# Altium integrated library Resistors.IntLib: 4954 symbols (part 25 of 32)
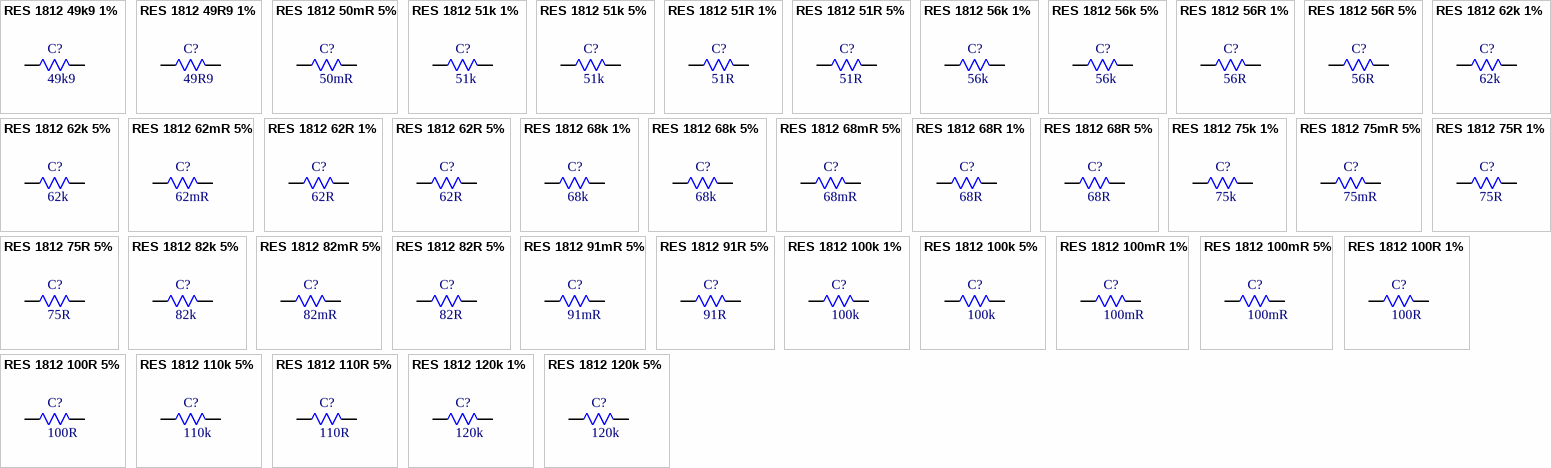
[diagram p147: symbols RES 1812 49k9 1% to RES 1812 120k 5%]

## RES 1812 49k9 1%
designator C?, comment 49k9
49.9kR 750mW 200V Thick Film Resistor 1% 100ppm/â„ƒ 1812 Chip Resistor - Surface Mount RoHS; Manufacturer: FOJAN; Manufacturer Part Number: FRC1812F4992TS; Supplier: LCSC; Supplier Part Number: C7467339; Resistance: 49k9; Tolerance: 1%; Voltage Rating: 200V; Power: 750mW
footprint RES SMD 1812
pins: 1, 2

## RES 1812 49R9 1%
designator C?, comment 49R9
750mW 49.9R 200V Thick Film Resistor 100ppm/â„ƒ 1% 1812 Chip Resistor - Surface Mount RoHS; Manufacturer: FOJAN; Manufacturer Part Number: FRC1812F49R9TS; Supplier: LCSC; Supplier Part Number: C49196908; Resistance: 49R9; Tolerance: 1%; Voltage Rating: 200V; Power: 750mW
footprint RES SMD 1812
pins: 1, 2

## RES 1812 50mR 5%
designator C?, comment 50mR
750mW 50mR Thick Film Resistor 1200ppm/â„ƒ 5% 1812 Chip Resistor - Surface Mount RoHS; Manufacturer: FOJAN; Manufacturer Part Number: FRL1812JR050TS; Supplier: LCSC; Supplier Part Number: C3013363; Resistance: 50mR; Tolerance: 5%; Power: 750mW
footprint RES SMD 1812
pins: 1, 2

## RES 1812 51k 1%
designator C?, comment 51k
51kR 1% 750mW 1812 Thick Film Resistor; Manufacturer: FOJAN; Manufacturer Part Number: FRC1812F5102TS; Voltage Rating: 200V; Supplier: LCSC; Supplier Part Number: C2933900; Resistance: 51k; Tolerance: 1%; Power: 750mW
footprint RES SMD 1812
pins: 1, 2

## RES 1812 51k 5%
designator C?, comment 51k
51kR 5% 750mW 1812 Thick Film Resistor; Manufacturer: FOJAN; Manufacturer Part Number: FRC1812J513 TS; Voltage Rating: 200V; Supplier: LCSC; Supplier Part Number: C2974084; Resistance: 51k; Tolerance: 5%; Power: 750mW
footprint RES SMD 1812
pins: 1, 2

## RES 1812 51R 1%
designator C?, comment 51R
51R 1% 750mW 1812 Thick Film Resistor; Manufacturer: FOJAN; Manufacturer Part Number: FRC1812F51R0TS; Voltage Rating: 200V; Supplier: LCSC; Supplier Part Number: C2933901; Resistance: 51R; Tolerance: 1%; Power: 750mW
footprint RES SMD 1812
pins: 1, 2

## RES 1812 51R 5%
designator C?, comment 51R
51R 5% 750mW 1812 Thick Film Resistor; Manufacturer: FOJAN; Manufacturer Part Number: FRC1812J510 TS; Voltage Rating: 200V; Supplier: LCSC; Supplier Part Number: C2933964; Resistance: 51R; Tolerance: 5%; Power: 750mW
footprint RES SMD 1812
pins: 1, 2

## RES 1812 56k 1%
designator C?, comment 56k
56kR 1% 750mW 1812 Thick Film Resistor; Manufacturer: FOJAN; Manufacturer Part Number: FRC1812F5602TS; Voltage Rating: 200V; Supplier: LCSC; Supplier Part Number: C2933902; Resistance: 56k; Tolerance: 1%; Power: 750mW
footprint RES SMD 1812
pins: 1, 2

## RES 1812 56k 5%
designator C?, comment 56k
56kR 5% 750mW 1812 Thick Film Resistor; Manufacturer: FOJAN; Manufacturer Part Number: FRC1812J563 TS; Voltage Rating: 200V; Supplier: LCSC; Supplier Part Number: C2933967; Resistance: 56k; Tolerance: 5%; Power: 750mW
footprint RES SMD 1812
pins: 1, 2

## RES 1812 56R 1%
designator C?, comment 56R
56R 1% 750mW 1812 Thick Film Resistor; Manufacturer: FOJAN; Manufacturer Part Number: FRC1812F56R0TS; Voltage Rating: 200V; Supplier: LCSC; Supplier Part Number: C2933903; Resistance: 56R; Tolerance: 1%; Power: 750mW
footprint RES SMD 1812
pins: 1, 2

## RES 1812 56R 5%
designator C?, comment 56R
56R 5% 750mW 1812 Thick Film Resistor; Manufacturer: FOJAN; Manufacturer Part Number: FRC1812J560 TS; Voltage Rating: 200V; Supplier: LCSC; Supplier Part Number: C2933966; Resistance: 56R; Tolerance: 5%; Power: 750mW
footprint RES SMD 1812
pins: 1, 2

## RES 1812 62k 1%
designator C?, comment 62k
62kR 1% 750mW 1812 Thick Film Resistor; Manufacturer: FOJAN; Manufacturer Part Number: FRC1812F6202TS; Voltage Rating: 200V; Supplier: LCSC; Supplier Part Number: C2974076; Resistance: 62k; Tolerance: 1%; Power: 750mW
footprint RES SMD 1812
pins: 1, 2

## RES 1812 62k 5%
designator C?, comment 62k
62kR 5% 750mW 1812 Thick Film Resistor; Manufacturer: FOJAN; Manufacturer Part Number: FRC1812J623 TS; Voltage Rating: 200V; Supplier: LCSC; Supplier Part Number: C5713356; Resistance: 62k; Tolerance: 5%; Power: 750mW
footprint RES SMD 1812
pins: 1, 2

## RES 1812 62mR 5%
designator C?, comment 62mR
62mR 750mW Thick Film Resistor 5% 600ppm/â„ƒ 1812 Chip Resistor - Surface Mount RoHS; Manufacturer: FOJAN; Manufacturer Part Number: FRL1812JR062TS; Supplier: LCSC; Supplier Part Number: C7467400; Resistance: 62mR; Tolerance: 5%; Power: 750mW
footprint RES SMD 1812
pins: 1, 2

## RES 1812 62R 1%
designator C?, comment 62R
62R 1% 750mW 1812 Thick Film Resistor; Manufacturer: FOJAN; Manufacturer Part Number: FRC1812F62R0TS; Voltage Rating: 200V; Supplier: LCSC; Supplier Part Number: C5153996; Resistance: 62R; Tolerance: 1%; Power: 750mW
footprint RES SMD 1812
pins: 1, 2

## RES 1812 62R 5%
designator C?, comment 62R
62R 5% 750mW 1812 Thick Film Resistor; Manufacturer: FOJAN; Manufacturer Part Number: FRC1812J620 TS; Voltage Rating: 200V; Supplier: LCSC; Supplier Part Number: C2933970; Resistance: 62R; Tolerance: 5%; Power: 750mW
footprint RES SMD 1812
pins: 1, 2

## RES 1812 68k 1%
designator C?, comment 68k
68kR 750mW 200V Thick Film Resistor 100ppm/â„ƒ 1% 1812 Chip Resistor - Surface Mount RoHS; Manufacturer: FOJAN; Manufacturer Part Number: FRC1812F6802TS; Supplier: LCSC; Supplier Part Number: C19267404; Resistance: 68k; Tolerance: 1%; Voltage Rating: 200V; Power: 750mW
footprint RES SMD 1812
pins: 1, 2

## RES 1812 68k 5%
designator C?, comment 68k
68kR 5% 750mW 1812 Thick Film Resistor; Manufacturer: FOJAN; Manufacturer Part Number: FRC1812J683 TS; Voltage Rating: 200V; Supplier: LCSC; Supplier Part Number: C5126063; Resistance: 68k; Tolerance: 5%; Power: 750mW
footprint RES SMD 1812
pins: 1, 2

## RES 1812 68mR 5%
designator C?, comment 68mR
68mR 750mW Thick Film Resistor 5% 600ppm/â„ƒ 1812 Chip Resistor - Surface Mount RoHS; Manufacturer: FOJAN; Manufacturer Part Number: FRL1812JR068TS; Supplier: LCSC; Supplier Part Number: C5713402; Resistance: 68mR; Tolerance: 5%; Power: 750mW
footprint RES SMD 1812
pins: 1, 2

## RES 1812 68R 1%
designator C?, comment 68R
750mW 68R 200V Thick Film Resistor 100ppm/â„ƒ 1% 1812 Chip Resistor - Surface Mount RoHS; Manufacturer: FOJAN; Manufacturer Part Number: FRC1812F68R0TS; Supplier: LCSC; Supplier Part Number: C19268610; Resistance: 68R; Tolerance: 1%; Voltage Rating: 200V; Power: 750mW
footprint RES SMD 1812
pins: 1, 2

## RES 1812 68R 5%
designator C?, comment 68R
68R 5% 750mW 1812 Thick Film Resistor; Manufacturer: FOJAN; Manufacturer Part Number: FRC1812J680 TS; Voltage Rating: 200V; Supplier: LCSC; Supplier Part Number: C2933973; Resistance: 68R; Tolerance: 5%; Power: 750mW
footprint RES SMD 1812
pins: 1, 2

## RES 1812 75k 1%
designator C?, comment 75k
75kR 1% 750mW 1812 Thick Film Resistor; Manufacturer: FOJAN; Manufacturer Part Number: FRC1812F7502TS; Voltage Rating: 200V; Supplier: LCSC; Supplier Part Number: C2933909; Resistance: 75k; Tolerance: 1%; Power: 750mW
footprint RES SMD 1812
pins: 1, 2

## RES 1812 75mR 5%
designator C?, comment 75mR
75mR 750mW Thick Film Resistor 5% 600ppm/â„ƒ 1812 Chip Resistor - Surface Mount RoHS; Manufacturer: FOJAN; Manufacturer Part Number: FRL1812JR075TS; Supplier: LCSC; Supplier Part Number: C5713403; Resistance: 75mR; Tolerance: 5%; Power: 750mW
footprint RES SMD 1812
pins: 1, 2

## RES 1812 75R 1%
designator C?, comment 75R
75R 1% 750mW 1812 Thick Film Resistor; Manufacturer: FOJAN; Manufacturer Part Number: FRC1812F75R0TS; Voltage Rating: 200V; Supplier: LCSC; Supplier Part Number: C5713351; Resistance: 75R; Tolerance: 1%; Power: 750mW
footprint RES SMD 1812
pins: 1, 2

## RES 1812 75R 5%
designator C?, comment 75R
75R 5% 750mW 1812 Thick Film Resistor; Manufacturer: FOJAN; Manufacturer Part Number: FRC1812J750 TS; Voltage Rating: 200V; Supplier: LCSC; Supplier Part Number: C2974085; Resistance: 75R; Tolerance: 5%; Power: 750mW
footprint RES SMD 1812
pins: 1, 2

## RES 1812 82k 5%
designator C?, comment 82k
82kR 5% 750mW 1812 Thick Film Resistor; Manufacturer: FOJAN; Manufacturer Part Number: FRC1812J823 TS; Voltage Rating: 200V; Supplier: LCSC; Supplier Part Number: C2933976; Resistance: 82k; Tolerance: 5%; Power: 750mW
footprint RES SMD 1812
pins: 1, 2

## RES 1812 82mR 5%
designator C?, comment 82mR
82mR 750mW Thick Film Resistor 5% 600ppm/â„ƒ 1812 Chip Resistor - Surface Mount RoHS; Manufacturer: FOJAN; Manufacturer Part Number: FRL1812JR082TS; Supplier: LCSC; Supplier Part Number: C5713404; Resistance: 82mR; Tolerance: 5%; Power: 750mW
footprint RES SMD 1812
pins: 1, 2

## RES 1812 82R 5%
designator C?, comment 82R
82R 5% 750mW 1812 Thick Film Resistor; Manufacturer: FOJAN; Manufacturer Part Number: FRC1812J820 TS; Voltage Rating: 200V; Supplier: LCSC; Supplier Part Number: C2960910; Resistance: 82R; Tolerance: 5%; Power: 750mW
footprint RES SMD 1812
pins: 1, 2

## RES 1812 91mR 5%
designator C?, comment 91mR
750mW 91mR Thick Film Resistor 600ppm/â„ƒ 5% 1812 Chip Resistor - Surface Mount RoHS; Manufacturer: FOJAN; Manufacturer Part Number: FRL1812JR091TS; Supplier: LCSC; Supplier Part Number: C3013364; Resistance: 91mR; Tolerance: 5%; Power: 750mW
footprint RES SMD 1812
pins: 1, 2

## RES 1812 91R 5%
designator C?, comment 91R
91R 5% 750mW 1812 Thick Film Resistor; Manufacturer: FOJAN; Manufacturer Part Number: FRC1812J910 TS; Voltage Rating: 200V; Supplier: LCSC; Supplier Part Number: C5713358; Resistance: 91R; Tolerance: 5%; Power: 750mW
footprint RES SMD 1812
pins: 1, 2

## RES 1812 100k 1%
designator C?, comment 100k
100kR 1% 750mW 1812 Thick Film Resistor; Manufacturer: FOJAN; Manufacturer Part Number: FRC1812F1003TS; Voltage Rating: 200V; Supplier: LCSC; Supplier Part Number: C2999518; Resistance: 100k; Tolerance: 1%; Power: 750mW
footprint RES SMD 1812
pins: 1, 2

## RES 1812 100k 5%
designator C?, comment 100k
100kR 5% 750mW 1812 Thick Film Resistor; Manufacturer: FOJAN; Manufacturer Part Number: FRC1812J104 TS; Voltage Rating: 200V; Supplier: LCSC; Supplier Part Number: C5146262; Resistance: 100k; Tolerance: 5%; Power: 750mW
footprint RES SMD 1812
pins: 1, 2

## RES 1812 100mR 1%
designator C?, comment 100mR
750mW 100mR 200V Thick Film Resistor 1% 1200ppm/â„ƒ 1812 Chip Resistor - Surface Mount RoHS; Manufacturer: FOJAN; Manufacturer Part Number: FRL1812FR100TS; Supplier: LCSC; Supplier Part Number: C2934341; Resistance: 100mR; Tolerance: 1%; Voltage Rating: 200V; Power: 750mW
footprint RES SMD 1812
pins: 1, 2

## RES 1812 100mR 5%
designator C?, comment 100mR
750mW 100mR 200V Thick Film Resistor 5% 600ppm/â„ƒ 1812 Chip Resistor - Surface Mount RoHS; Manufacturer: FOJAN; Manufacturer Part Number: FRL1812JR100TS; Supplier: LCSC; Supplier Part Number: C2960717; Resistance: 100mR; Tolerance: 5%; Voltage Rating: 200V; Power: 750mW
footprint RES SMD 1812
pins: 1, 2

## RES 1812 100R 1%
designator C?, comment 100R
100R 1% 750mW 1812 Thick Film Resistor; Manufacturer: FOJAN; Manufacturer Part Number: FRC1812F1000TS; Voltage Rating: 200V; Supplier: LCSC; Supplier Part Number: C2960853; Resistance: 100R; Tolerance: 1%; Power: 750mW
footprint RES SMD 1812
pins: 1, 2

## RES 1812 100R 5%
designator C?, comment 100R
100R 5% 750mW 1812 Thick Film Resistor; Manufacturer: FOJAN; Manufacturer Part Number: FRC1812J101 TS; Voltage Rating: 200V; Supplier: LCSC; Supplier Part Number: C2933911; Resistance: 100R; Tolerance: 5%; Power: 750mW
footprint RES SMD 1812
pins: 1, 2

## RES 1812 110k 5%
designator C?, comment 110k
110kR 5% 750mW 1812 Thick Film Resistor; Manufacturer: FOJAN; Manufacturer Part Number: FRC1812J114 TS; Voltage Rating: 200V; Supplier: LCSC; Supplier Part Number: C2933917; Resistance: 110k; Tolerance: 5%; Power: 750mW
footprint RES SMD 1812
pins: 1, 2

## RES 1812 110R 5%
designator C?, comment 110R
110R 5% 750mW 1812 Thick Film Resistor; Manufacturer: FOJAN; Manufacturer Part Number: FRC1812J111 TS; Voltage Rating: 200V; Supplier: LCSC; Supplier Part Number: C2933916; Resistance: 110R; Tolerance: 5%; Power: 750mW
footprint RES SMD 1812
pins: 1, 2

## RES 1812 120k 1%
designator C?, comment 120k
120kR 1% 750mW 1812 Thick Film Resistor; Manufacturer: FOJAN; Manufacturer Part Number: FRC1812F1203TS; Voltage Rating: 200V; Supplier: LCSC; Supplier Part Number: C2933876; Resistance: 120k; Tolerance: 1%; Power: 750mW
footprint RES SMD 1812
pins: 1, 2

## RES 1812 120k 5%
designator C?, comment 120k
120kR 5% 750mW 1812 Thick Film Resistor; Manufacturer: FOJAN; Manufacturer Part Number: FRC1812J124 TS; Voltage Rating: 200V; Supplier: LCSC; Supplier Part Number: C2933921; Resistance: 120k; Tolerance: 5%; Power: 750mW
footprint RES SMD 1812
pins: 1, 2

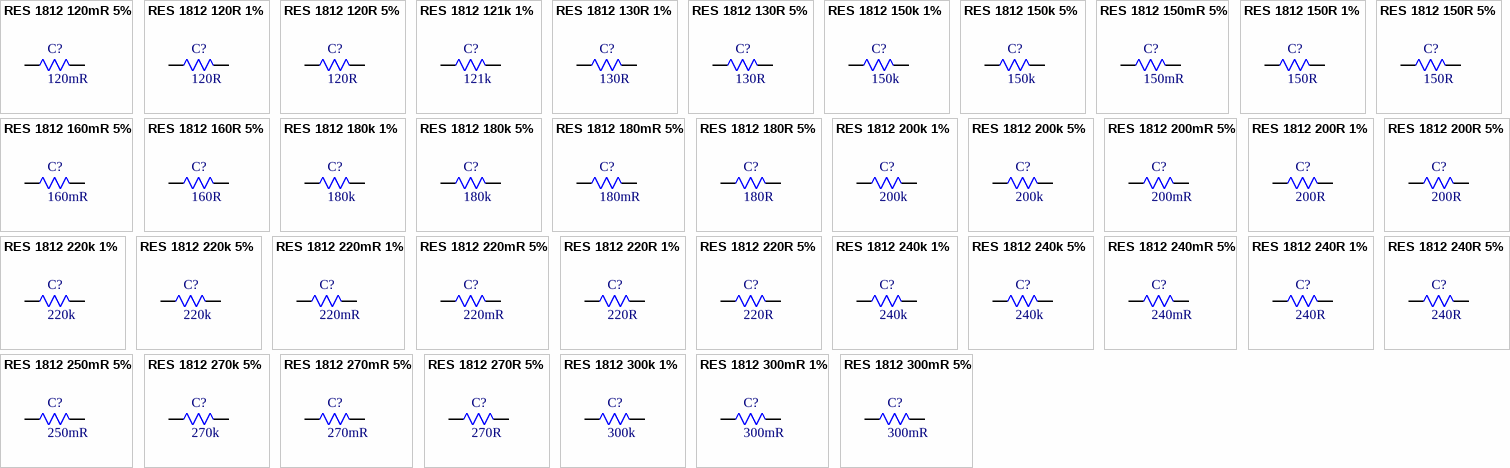
[diagram p97: symbols RES 1812 120mR 5% to RES 1812 300mR 5%]

## RES 1812 120mR 5%
designator C?, comment 120mR
750mW 120mR 200V Thick Film Resistor 5% 600ppm/â„ƒ 1812 Chip Resistor - Surface Mount RoHS; Manufacturer: FOJAN; Manufacturer Part Number: FRL1812JR120TS; Supplier: LCSC; Supplier Part Number: C2934344; Resistance: 120mR; Tolerance: 5%; Voltage Rating: 200V; Power: 750mW
footprint RES SMD 1812
pins: 1, 2

## RES 1812 120R 1%
designator C?, comment 120R
120R 1% 750mW 1812 Thick Film Resistor; Manufacturer: FOJAN; Manufacturer Part Number: FRC1812F1200TS; Voltage Rating: 200V; Supplier: LCSC; Supplier Part Number: C5126249; Resistance: 120R; Tolerance: 1%; Power: 750mW
footprint RES SMD 1812
pins: 1, 2

## RES 1812 120R 5%
designator C?, comment 120R
120R 5% 750mW 1812 Thick Film Resistor; Manufacturer: FOJAN; Manufacturer Part Number: FRC1812J121 TS; Voltage Rating: 200V; Supplier: LCSC; Supplier Part Number: C2933919; Resistance: 120R; Tolerance: 5%; Power: 750mW
footprint RES SMD 1812
pins: 1, 2

## RES 1812 121k 1%
designator C?, comment 121k
121kR 1% 750mW 1812 Thick Film Resistor; Manufacturer: FOJAN; Manufacturer Part Number: FRC1812F1213TS; Voltage Rating: 200V; Supplier: LCSC; Supplier Part Number: C2933877; Resistance: 121k; Tolerance: 1%; Power: 750mW
footprint RES SMD 1812
pins: 1, 2

## RES 1812 130R 1%
designator C?, comment 130R
130R 1% 750mW 1812 Thick Film Resistor; Manufacturer: FOJAN; Manufacturer Part Number: FRC1812F1300TS; Voltage Rating: 200V; Supplier: LCSC; Supplier Part Number: C5204031; Resistance: 130R; Tolerance: 1%; Power: 750mW
footprint RES SMD 1812
pins: 1, 2

## RES 1812 130R 5%
designator C?, comment 130R
130R 5% 750mW 1812 Thick Film Resistor; Manufacturer: FOJAN; Manufacturer Part Number: FRC1812J131 TS; Voltage Rating: 200V; Supplier: LCSC; Supplier Part Number: C2933922; Resistance: 130R; Tolerance: 5%; Power: 750mW
footprint RES SMD 1812
pins: 1, 2

## RES 1812 150k 1%
designator C?, comment 150k
150kR 1% 750mW 1812 Thick Film Resistor; Manufacturer: FOJAN; Manufacturer Part Number: FRC1812F1503TS; Voltage Rating: 200V; Supplier: LCSC; Supplier Part Number: C2933879; Resistance: 150k; Tolerance: 1%; Power: 750mW
footprint RES SMD 1812
pins: 1, 2

## RES 1812 150k 5%
designator C?, comment 150k
150kR 5% 750mW 1812 Thick Film Resistor; Manufacturer: FOJAN; Manufacturer Part Number: FRC1812J154 TS; Voltage Rating: 200V; Supplier: LCSC; Supplier Part Number: C2960820; Resistance: 150k; Tolerance: 5%; Power: 750mW
footprint RES SMD 1812
pins: 1, 2

## RES 1812 150mR 5%
designator C?, comment 150mR
750mW 150mR 200V Thick Film Resistor 5% 600ppm/â„ƒ 1812 Chip Resistor - Surface Mount RoHS; Manufacturer: FOJAN; Manufacturer Part Number: FRL1812JR150TS; Supplier: LCSC; Supplier Part Number: C2934345; Resistance: 150mR; Tolerance: 5%; Voltage Rating: 200V; Power: 750mW
footprint RES SMD 1812
pins: 1, 2

## RES 1812 150R 1%
designator C?, comment 150R
150R 1% 750mW 1812 Thick Film Resistor; Manufacturer: FOJAN; Manufacturer Part Number: FRC1812F1500TS; Voltage Rating: 200V; Supplier: LCSC; Supplier Part Number: C2933878; Resistance: 150R; Tolerance: 1%; Power: 750mW
footprint RES SMD 1812
pins: 1, 2

## RES 1812 150R 5%
designator C?, comment 150R
150R 5% 750mW 1812 Thick Film Resistor; Manufacturer: FOJAN; Manufacturer Part Number: FRC1812J151 TS; Voltage Rating: 200V; Supplier: LCSC; Supplier Part Number: C2933925; Resistance: 150R; Tolerance: 5%; Power: 750mW
footprint RES SMD 1812
pins: 1, 2

## RES 1812 160mR 5%
designator C?, comment 160mR
160mR Thick Film Resistor 600ppm/â„ƒ 5% 1812 Chip Resistor - Surface Mount RoHS; Manufacturer: FOJAN; Manufacturer Part Number: FRL1812JR160TS; Supplier: LCSC; Supplier Part Number: C5126144; Resistance: 160mR; Tolerance: 5%
footprint RES SMD 1812
pins: 1, 2

## RES 1812 160R 5%
designator C?, comment 160R
160R 5% 750mW 1812 Thick Film Resistor; Manufacturer: FOJAN; Manufacturer Part Number: FRC1812J161 TS; Voltage Rating: 200V; Supplier: LCSC; Supplier Part Number: C2933928; Resistance: 160R; Tolerance: 5%; Power: 750mW
footprint RES SMD 1812
pins: 1, 2

## RES 1812 180k 1%
designator C?, comment 180k
180kR 1% 750mW 1812 Thick Film Resistor; Manufacturer: FOJAN; Manufacturer Part Number: FRC1812F1803TS; Voltage Rating: 200V; Supplier: LCSC; Supplier Part Number: C2933882; Resistance: 180k; Tolerance: 1%; Power: 750mW
footprint RES SMD 1812
pins: 1, 2

## RES 1812 180k 5%
designator C?, comment 180k
180kR 5% 750mW 1812 Thick Film Resistor; Manufacturer: FOJAN; Manufacturer Part Number: FRC1812J184 TS; Voltage Rating: 200V; Supplier: LCSC; Supplier Part Number: C5159750; Resistance: 180k; Tolerance: 5%; Power: 750mW
footprint RES SMD 1812
pins: 1, 2

## RES 1812 180mR 5%
designator C?, comment 180mR
750mW 180mR 200V Thick Film Resistor 5% 600ppm/â„ƒ 1812 Chip Resistor - Surface Mount RoHS; Manufacturer: FOJAN; Manufacturer Part Number: FRL1812JR180TS; Supplier: LCSC; Supplier Part Number: C2934346; Resistance: 180mR; Tolerance: 5%; Voltage Rating: 200V; Power: 750mW
footprint RES SMD 1812
pins: 1, 2

## RES 1812 180R 5%
designator C?, comment 180R
180R 5% 750mW 1812 Thick Film Resistor; Manufacturer: FOJAN; Manufacturer Part Number: FRC1812J181 TS; Voltage Rating: 200V; Supplier: LCSC; Supplier Part Number: C2960684; Resistance: 180R; Tolerance: 5%; Power: 750mW
footprint RES SMD 1812
pins: 1, 2

## RES 1812 200k 1%
designator C?, comment 200k
200kR 1% 750mW 1812 Thick Film Resistor; Manufacturer: FOJAN; Manufacturer Part Number: FRC1812F2003TS; Voltage Rating: 200V; Supplier: LCSC; Supplier Part Number: C2933883; Resistance: 200k; Tolerance: 1%; Power: 750mW
footprint RES SMD 1812
pins: 1, 2

## RES 1812 200k 5%
designator C?, comment 200k
200kR 5% 750mW 1812 Thick Film Resistor; Manufacturer: FOJAN; Manufacturer Part Number: FRC1812J204 TS; Voltage Rating: 200V; Supplier: LCSC; Supplier Part Number: C2933936; Resistance: 200k; Tolerance: 5%; Power: 750mW
footprint RES SMD 1812
pins: 1, 2

## RES 1812 200mR 5%
designator C?, comment 200mR
200mR 750mW 200V Thick Film Resistor 600ppm/â„ƒ 5% 1812 Chip Resistor - Surface Mount RoHS; Manufacturer: FOJAN; Manufacturer Part Number: FRL1812JR200TS; Supplier: LCSC; Supplier Part Number: C2930452; Resistance: 200mR; Tolerance: 5%; Voltage Rating: 200V; Power: 750mW
footprint RES SMD 1812
pins: 1, 2

## RES 1812 200R 1%
designator C?, comment 200R
200R 1% 750mW 1812 Thick Film Resistor; Manufacturer: FOJAN; Manufacturer Part Number: FRC1812F2000TS; Voltage Rating: 200V; Supplier: LCSC; Supplier Part Number: C2974073; Resistance: 200R; Tolerance: 1%; Power: 750mW
footprint RES SMD 1812
pins: 1, 2

## RES 1812 200R 5%
designator C?, comment 200R
200R 5% 750mW 1812 Thick Film Resistor; Manufacturer: FOJAN; Manufacturer Part Number: FRC1812J201 TS; Voltage Rating: 200V; Supplier: LCSC; Supplier Part Number: C2933933; Resistance: 200R; Tolerance: 5%; Power: 750mW
footprint RES SMD 1812
pins: 1, 2

## RES 1812 220k 1%
designator C?, comment 220k
220kR 1% 750mW 1812 Thick Film Resistor; Manufacturer: FOJAN; Manufacturer Part Number: FRC1812F2203TS; Voltage Rating: 200V; Supplier: LCSC; Supplier Part Number: C2933885; Resistance: 220k; Tolerance: 1%; Power: 750mW
footprint RES SMD 1812
pins: 1, 2

## RES 1812 220k 5%
designator C?, comment 220k
220kR 5% 750mW 1812 Thick Film Resistor; Manufacturer: FOJAN; Manufacturer Part Number: FRC1812J224TS; Voltage Rating: 200V; Supplier: LCSC; Supplier Part Number: C3000616; Resistance: 220k; Tolerance: 5%; Power: 750mW
footprint RES SMD 1812
pins: 1, 2

## RES 1812 220mR 1%
designator C?, comment 220mR
750mW 220mR Thick Film Resistor 300ppm/â„ƒ 1% 1812 Chip Resistor - Surface Mount RoHS; Manufacturer: FOJAN; Manufacturer Part Number: FRL1812FR220TS; Supplier: LCSC; Supplier Part Number: C3000761; Resistance: 220mR; Tolerance: 1%; Power: 750mW
footprint RES SMD 1812
pins: 1, 2

## RES 1812 220mR 5%
designator C?, comment 220mR
750mW 220mR 200V Thick Film Resistor 5% 300ppm/â„ƒ 1812 Chip Resistor - Surface Mount RoHS; Manufacturer: FOJAN; Manufacturer Part Number: FRL1812JR220TS; Supplier: LCSC; Supplier Part Number: C2934347; Resistance: 220mR; Tolerance: 5%; Voltage Rating: 200V; Power: 750mW
footprint RES SMD 1812
pins: 1, 2

## RES 1812 220R 1%
designator C?, comment 220R
220R 1% 750mW 1812 Thick Film Resistor; Manufacturer: FOJAN; Manufacturer Part Number: FRC1812F2200TS; Voltage Rating: 200V; Supplier: LCSC; Supplier Part Number: C2960905; Resistance: 220R; Tolerance: 1%; Power: 750mW
footprint RES SMD 1812
pins: 1, 2

## RES 1812 220R 5%
designator C?, comment 220R
220R 5% 750mW 1812 Thick Film Resistor; Manufacturer: FOJAN; Manufacturer Part Number: FRC1812J221 TS; Voltage Rating: 200V; Supplier: LCSC; Supplier Part Number: C2933938; Resistance: 220R; Tolerance: 5%; Power: 750mW
footprint RES SMD 1812
pins: 1, 2

## RES 1812 240k 1%
designator C?, comment 240k
240kR 1% 750mW 1812 Thick Film Resistor; Manufacturer: FOJAN; Manufacturer Part Number: FRC1812F2403TS; Voltage Rating: 200V; Supplier: LCSC; Supplier Part Number: C5713347; Resistance: 240k; Tolerance: 1%; Power: 750mW
footprint RES SMD 1812
pins: 1, 2

## RES 1812 240k 5%
designator C?, comment 240k
240kR 5% 750mW 1812 Thick Film Resistor; Manufacturer: FOJAN; Manufacturer Part Number: FRC1812J244 TS; Voltage Rating: 200V; Supplier: LCSC; Supplier Part Number: C5159751; Resistance: 240k; Tolerance: 5%; Power: 750mW
footprint RES SMD 1812
pins: 1, 2

## RES 1812 240mR 5%
designator C?, comment 240mR
240mR Thick Film Resistor 300ppm/â„ƒ 5% 1812 Chip Resistor - Surface Mount RoHS; Manufacturer: FOJAN; Manufacturer Part Number: FRL1812JR240TS; Supplier: LCSC; Supplier Part Number: C5126145; Resistance: 240mR; Tolerance: 5%
footprint RES SMD 1812
pins: 1, 2

## RES 1812 240R 1%
designator C?, comment 240R
240R 1% 750mW 1812 Thick Film Resistor; Manufacturer: FOJAN; Manufacturer Part Number: FRC1812F2400TS; Voltage Rating: 200V; Supplier: LCSC; Supplier Part Number: C2933886; Resistance: 240R; Tolerance: 1%; Power: 750mW
footprint RES SMD 1812
pins: 1, 2

## RES 1812 240R 5%
designator C?, comment 240R
240R 5% 750mW 1812 Thick Film Resistor; Manufacturer: FOJAN; Manufacturer Part Number: FRC1812J241 TS; Voltage Rating: 200V; Supplier: LCSC; Supplier Part Number: C2960922; Resistance: 240R; Tolerance: 5%; Power: 750mW
footprint RES SMD 1812
pins: 1, 2

## RES 1812 250mR 5%
designator C?, comment 250mR
750mW 250mR 200V Thick Film Resistor 5% 300ppm/â„ƒ 1812 Chip Resistor - Surface Mount RoHS; Manufacturer: FOJAN; Manufacturer Part Number: FRL1812JR250TS; Supplier: LCSC; Supplier Part Number: C2934348; Resistance: 250mR; Tolerance: 5%; Voltage Rating: 200V; Power: 750mW
footprint RES SMD 1812
pins: 1, 2

## RES 1812 270k 5%
designator C?, comment 270k
270kR 5% 750mW 1812 Thick Film Resistor; Manufacturer: FOJAN; Manufacturer Part Number: FRC1812J274 TS; Voltage Rating: 200V; Supplier: LCSC; Supplier Part Number: C3013296; Resistance: 270k; Tolerance: 5%; Power: 750mW
footprint RES SMD 1812
pins: 1, 2

## RES 1812 270mR 5%
designator C?, comment 270mR
750mW 270mR Thick Film Resistor 300ppm/â„ƒ 5% 1812 Chip Resistor - Surface Mount RoHS; Manufacturer: FOJAN; Manufacturer Part Number: FRL1812JR270TS; Supplier: LCSC; Supplier Part Number: C3000785; Resistance: 270mR; Tolerance: 5%; Power: 750mW
footprint RES SMD 1812
pins: 1, 2

## RES 1812 270R 5%
designator C?, comment 270R
270R 5% 750mW 1812 Thick Film Resistor; Manufacturer: FOJAN; Manufacturer Part Number: FRC1812J271 TS; Voltage Rating: 200V; Supplier: LCSC; Supplier Part Number: C2933941; Resistance: 270R; Tolerance: 5%; Power: 750mW
footprint RES SMD 1812
pins: 1, 2

## RES 1812 300k 1%
designator C?, comment 300k
300kR 1% 750mW 1812 Thick Film Resistor; Manufacturer: FOJAN; Manufacturer Part Number: FRC1812F3003TS; Voltage Rating: 200V; Supplier: LCSC; Supplier Part Number: C3013292; Resistance: 300k; Tolerance: 1%; Power: 750mW
footprint RES SMD 1812
pins: 1, 2

## RES 1812 300mR 1%
designator C?, comment 300mR
750mW 300mR Thick Film Resistor 300ppm/â„ƒ 1% 1812 Chip Resistor - Surface Mount RoHS; Manufacturer: FOJAN; Manufacturer Part Number: FRL1812FR300TS; Supplier: LCSC; Supplier Part Number: C5159748; Resistance: 300mR; Tolerance: 1%; Power: 750mW
footprint RES SMD 1812
pins: 1, 2

## RES 1812 300mR 5%
designator C?, comment 300mR
750mW 300mR Thick Film Resistor 300ppm/â„ƒ 5% 1812 Chip Resistor - Surface Mount RoHS; Manufacturer: FOJAN; Manufacturer Part Number: FRL1812JR300TS; Supplier: LCSC; Supplier Part Number: C5159752; Resistance: 300mR; Tolerance: 5%; Power: 750mW
footprint RES SMD 1812
pins: 1, 2

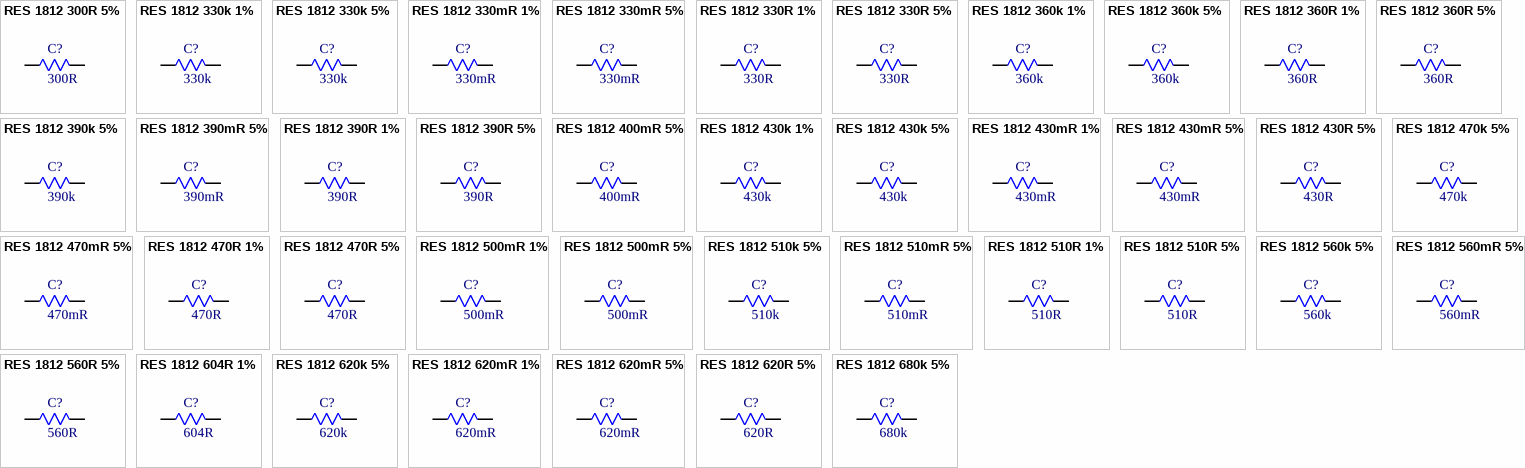
[diagram p98: symbols RES 1812 300R 5% to RES 1812 680k 5%]

## RES 1812 300R 5%
designator C?, comment 300R
300R 5% 750mW 1812 Thick Film Resistor; Manufacturer: FOJAN; Manufacturer Part Number: FRC1812J301 TS; Voltage Rating: 200V; Supplier: LCSC; Supplier Part Number: C2933946; Resistance: 300R; Tolerance: 5%; Power: 750mW
footprint RES SMD 1812
pins: 1, 2

## RES 1812 330k 1%
designator C?, comment 330k
330kR 1% 750mW 1812 Thick Film Resistor; Manufacturer: FOJAN; Manufacturer Part Number: FRC1812F3303TS; Voltage Rating: 200V; Supplier: LCSC; Supplier Part Number: C5126142; Resistance: 330k; Tolerance: 1%; Power: 750mW
footprint RES SMD 1812
pins: 1, 2

## RES 1812 330k 5%
designator C?, comment 330k
330kR 5% 750mW 1812 Thick Film Resistor; Manufacturer: FOJAN; Manufacturer Part Number: FRC1812J334 TS; Voltage Rating: 200V; Supplier: LCSC; Supplier Part Number: C2933952; Resistance: 330k; Tolerance: 5%; Power: 750mW
footprint RES SMD 1812
pins: 1, 2

## RES 1812 330mR 1%
designator C?, comment 330mR
330mR Thick Film Resistor 300ppm/â„ƒ 1% 1812 Chip Resistor - Surface Mount RoHS; Manufacturer: FOJAN; Manufacturer Part Number: FRL1812FR330TS; Supplier: LCSC; Supplier Part Number: C3013361; Resistance: 330mR; Tolerance: 1%
footprint RES SMD 1812
pins: 1, 2

## RES 1812 330mR 5%
designator C?, comment 330mR
750mW 330mR Thick Film Resistor 300ppm/â„ƒ 5% 1812 Chip Resistor - Surface Mount RoHS; Manufacturer: FOJAN; Manufacturer Part Number: FRL1812JR330TS; Supplier: LCSC; Supplier Part Number: C5126088; Resistance: 330mR; Tolerance: 5%; Power: 750mW
footprint RES SMD 1812
pins: 1, 2

## RES 1812 330R 1%
designator C?, comment 330R
330R 1% 750mW 1812 Thick Film Resistor; Manufacturer: FOJAN; Manufacturer Part Number: FRC1812F3300TS; Voltage Rating: 200V; Supplier: LCSC; Supplier Part Number: C2960867; Resistance: 330R; Tolerance: 1%; Power: 750mW
footprint RES SMD 1812
pins: 1, 2

## RES 1812 330R 5%
designator C?, comment 330R
330R 5% 750mW 1812 Thick Film Resistor; Manufacturer: FOJAN; Manufacturer Part Number: FRC1812J331 TS; Voltage Rating: 200V; Supplier: LCSC; Supplier Part Number: C2933950; Resistance: 330R; Tolerance: 5%; Power: 750mW
footprint RES SMD 1812
pins: 1, 2

## RES 1812 360k 1%
designator C?, comment 360k
360kR 1% 750mW 1812 Thick Film Resistor; Manufacturer: FOJAN; Manufacturer Part Number: FRC1812F3603TS; Voltage Rating: 200V; Supplier: LCSC; Supplier Part Number: C5713348; Resistance: 360k; Tolerance: 1%; Power: 750mW
footprint RES SMD 1812
pins: 1, 2

## RES 1812 360k 5%
designator C?, comment 360k
360kR 750mW 200V Thick Film Resistor 100ppm/â„ƒ 5% 1812 Chip Resistor - Surface Mount RoHS; Manufacturer: FOJAN; Manufacturer Part Number: FRC1812J364 TS; Supplier: LCSC; Supplier Part Number: C18164311; Resistance: 360k; Tolerance: 5%; Voltage Rating: 200V; Power: 750mW
footprint RES SMD 1812
pins: 1, 2

## RES 1812 360R 1%
designator C?, comment 360R
360R 1% 750mW 1812 Thick Film Resistor; Manufacturer: FOJAN; Manufacturer Part Number: FRC1812F3600TS; Voltage Rating: 200V; Supplier: LCSC; Supplier Part Number: C2933895; Resistance: 360R; Tolerance: 1%; Power: 750mW
footprint RES SMD 1812
pins: 1, 2

## RES 1812 360R 5%
designator C?, comment 360R
360R 5% 750mW 1812 Thick Film Resistor; Manufacturer: FOJAN; Manufacturer Part Number: FRC1812J361 TS; Voltage Rating: 200V; Supplier: LCSC; Supplier Part Number: C2933953; Resistance: 360R; Tolerance: 5%; Power: 750mW
footprint RES SMD 1812
pins: 1, 2

## RES 1812 390k 5%
designator C?, comment 390k
390kR 5% 750mW 1812 Thick Film Resistor; Manufacturer: FOJAN; Manufacturer Part Number: FRC1812J394 TS; Voltage Rating: 200V; Supplier: LCSC; Supplier Part Number: C5126086; Resistance: 390k; Tolerance: 5%; Power: 750mW
footprint RES SMD 1812
pins: 1, 2

## RES 1812 390mR 5%
designator C?, comment 390mR
390mR 750mW Thick Film Resistor 300ppm/â„ƒ 5% 1812 Chip Resistor - Surface Mount RoHS; Manufacturer: FOJAN; Manufacturer Part Number: FRL1812JR390TS; Supplier: LCSC; Supplier Part Number: C5713405; Resistance: 390mR; Tolerance: 5%; Power: 750mW
footprint RES SMD 1812
pins: 1, 2

## RES 1812 390R 1%
designator C?, comment 390R
390R 1% 750mW 1812 Thick Film Resistor; Manufacturer: FOJAN; Manufacturer Part Number: FRC1812F3900TS; Voltage Rating: 200V; Supplier: LCSC; Supplier Part Number: C5204032; Resistance: 390R; Tolerance: 1%; Power: 750mW
footprint RES SMD 1812
pins: 1, 2

## RES 1812 390R 5%
designator C?, comment 390R
390R 5% 750mW 1812 Thick Film Resistor; Manufacturer: FOJAN; Manufacturer Part Number: FRC1812J391 TS; Voltage Rating: 200V; Supplier: LCSC; Supplier Part Number: C2933955; Resistance: 390R; Tolerance: 5%; Power: 750mW
footprint RES SMD 1812
pins: 1, 2

## RES 1812 400mR 5%
designator C?, comment 400mR
750mW 400mR Thick Film Resistor 300ppm/â„ƒ 5% 1812 Chip Resistor - Surface Mount RoHS; Manufacturer: FOJAN; Manufacturer Part Number: FRL1812JR400TS; Supplier: LCSC; Supplier Part Number: C5204049; Resistance: 400mR; Tolerance: 5%; Power: 750mW
footprint RES SMD 1812
pins: 1, 2

## RES 1812 430k 1%
designator C?, comment 430k
430kR 750mW 200V Thick Film Resistor 1% 100ppm/â„ƒ 1812 Chip Resistor - Surface Mount RoHS; Manufacturer: FOJAN; Manufacturer Part Number: FRC1812F4303TS; Supplier: LCSC; Supplier Part Number: C7467382; Resistance: 430k; Tolerance: 1%; Voltage Rating: 200V; Power: 750mW
footprint RES SMD 1812
pins: 1, 2

## RES 1812 430k 5%
designator C?, comment 430k
430kR 5% 750mW 1812 Thick Film Resistor; Manufacturer: FOJAN; Manufacturer Part Number: FRC1812J434 TS; Voltage Rating: 200V; Supplier: LCSC; Supplier Part Number: C5126171; Resistance: 430k; Tolerance: 5%; Power: 750mW
footprint RES SMD 1812
pins: 1, 2

## RES 1812 430mR 1%
designator C?, comment 430mR
750mW 430mR Thick Film Resistor 300ppm/â„ƒ 1% 1812 Chip Resistor - Surface Mount RoHS; Manufacturer: FOJAN; Manufacturer Part Number: FRL1812FR430TS; Supplier: LCSC; Supplier Part Number: C5126176; Resistance: 430mR; Tolerance: 1%; Power: 750mW
footprint RES SMD 1812
pins: 1, 2

## RES 1812 430mR 5%
designator C?, comment 430mR
750mW 430mR Thick Film Resistor 300ppm/â„ƒ 5% 1812 Chip Resistor - Surface Mount RoHS; Manufacturer: FOJAN; Manufacturer Part Number: FRL1812JR430TS; Supplier: LCSC; Supplier Part Number: C3000786; Resistance: 430mR; Tolerance: 5%; Power: 750mW
footprint RES SMD 1812
pins: 1, 2

## RES 1812 430R 5%
designator C?, comment 430R
430R 5% 750mW 1812 Thick Film Resistor; Manufacturer: FOJAN; Manufacturer Part Number: FRC1812J431 TS; Voltage Rating: 200V; Supplier: LCSC; Supplier Part Number: C2933958; Resistance: 430R; Tolerance: 5%; Power: 750mW
footprint RES SMD 1812
pins: 1, 2

## RES 1812 470k 5%
designator C?, comment 470k
470kR 5% 750mW 1812 Thick Film Resistor; Manufacturer: FOJAN; Manufacturer Part Number: FRC1812J474 TS; Voltage Rating: 200V; Supplier: LCSC; Supplier Part Number: C2960896; Resistance: 470k; Tolerance: 5%; Power: 750mW
footprint RES SMD 1812
pins: 1, 2

## RES 1812 470mR 5%
designator C?, comment 470mR
750mW 470mR Thick Film Resistor 300ppm/â„ƒ 5% 1812 Chip Resistor - Surface Mount RoHS; Manufacturer: FOJAN; Manufacturer Part Number: FRL1812JR470TS; Supplier: LCSC; Supplier Part Number: C3013365; Resistance: 470mR; Tolerance: 5%; Power: 750mW
footprint RES SMD 1812
pins: 1, 2

## RES 1812 470R 1%
designator C?, comment 470R
470R 1% 750mW 1812 Thick Film Resistor; Manufacturer: FOJAN; Manufacturer Part Number: FRC1812F4700TS; Voltage Rating: 200V; Supplier: LCSC; Supplier Part Number: C2933896; Resistance: 470R; Tolerance: 1%; Power: 750mW
footprint RES SMD 1812
pins: 1, 2

## RES 1812 470R 5%
designator C?, comment 470R
470R 5% 750mW 1812 Thick Film Resistor; Manufacturer: FOJAN; Manufacturer Part Number: FRC1812J471 TS; Voltage Rating: 200V; Supplier: LCSC; Supplier Part Number: C2933960; Resistance: 470R; Tolerance: 5%; Power: 750mW
footprint RES SMD 1812
pins: 1, 2

## RES 1812 500mR 1%
designator C?, comment 500mR
500mR 750mW 200V Thick Film Resistor 1% 300ppm/â„ƒ 1812 Chip Resistor - Surface Mount RoHS; Manufacturer: FOJAN; Manufacturer Part Number: FRL1812FR500TS; Supplier: LCSC; Supplier Part Number: C2934342; Resistance: 500mR; Tolerance: 1%; Voltage Rating: 200V; Power: 750mW
footprint RES SMD 1812
pins: 1, 2

## RES 1812 500mR 5%
designator C?, comment 500mR
750mW 500mR Thick Film Resistor 300ppm/â„ƒ 5% 1812 Chip Resistor - Surface Mount RoHS; Manufacturer: FOJAN; Manufacturer Part Number: FRL1812JR500TS; Supplier: LCSC; Supplier Part Number: C3000571; Resistance: 500mR; Tolerance: 5%; Power: 750mW
footprint RES SMD 1812
pins: 1, 2

## RES 1812 510k 5%
designator C?, comment 510k
510kR 5% 750mW 1812 Thick Film Resistor; Manufacturer: FOJAN; Manufacturer Part Number: FRC1812J514 TS; Voltage Rating: 200V; Supplier: LCSC; Supplier Part Number: C2960886; Resistance: 510k; Tolerance: 5%; Power: 750mW
footprint RES SMD 1812
pins: 1, 2

## RES 1812 510mR 5%
designator C?, comment 510mR
750mW 510mR Thick Film Resistor 200ppm/â„ƒ 5% 1812 Chip Resistor - Surface Mount RoHS; Manufacturer: FOJAN; Manufacturer Part Number: FRL1812JR510TS; Supplier: LCSC; Supplier Part Number: C5126089; Resistance: 510mR; Tolerance: 5%; Power: 750mW
footprint RES SMD 1812
pins: 1, 2

## RES 1812 510R 1%
designator C?, comment 510R
510R 1% 750mW 1812 Thick Film Resistor; Manufacturer: FOJAN; Manufacturer Part Number: FRC1812F5100TS; Voltage Rating: 200V; Supplier: LCSC; Supplier Part Number: C5159747; Resistance: 510R; Tolerance: 1%; Power: 750mW
footprint RES SMD 1812
pins: 1, 2

## RES 1812 510R 5%
designator C?, comment 510R
510R 5% 750mW 1812 Thick Film Resistor; Manufacturer: FOJAN; Manufacturer Part Number: FRC1812J511 TS; Voltage Rating: 200V; Supplier: LCSC; Supplier Part Number: C2960898; Resistance: 510R; Tolerance: 5%; Power: 750mW
footprint RES SMD 1812
pins: 1, 2

## RES 1812 560k 5%
designator C?, comment 560k
560kR 750mW 200V Thick Film Resistor 100ppm/â„ƒ 5% 1812 Chip Resistor - Surface Mount RoHS; Manufacturer: FOJAN; Manufacturer Part Number: FRC1812J564 TS; Supplier: LCSC; Supplier Part Number: C18164312; Resistance: 560k; Tolerance: 5%; Voltage Rating: 200V; Power: 750mW
footprint RES SMD 1812
pins: 1, 2

## RES 1812 560mR 5%
designator C?, comment 560mR
750mW 560mR Thick Film Resistor 200ppm/â„ƒ 5% 1812 Chip Resistor - Surface Mount RoHS; Manufacturer: FOJAN; Manufacturer Part Number: FRL1812JR560TS; Supplier: LCSC; Supplier Part Number: C5126116; Resistance: 560mR; Tolerance: 5%; Power: 750mW
footprint RES SMD 1812
pins: 1, 2

## RES 1812 560R 5%
designator C?, comment 560R
560R 5% 750mW 1812 Thick Film Resistor; Manufacturer: FOJAN; Manufacturer Part Number: FRC1812J561 TS; Voltage Rating: 200V; Supplier: LCSC; Supplier Part Number: C2960890; Resistance: 560R; Tolerance: 5%; Power: 750mW
footprint RES SMD 1812
pins: 1, 2

## RES 1812 604R 1%
designator C?, comment 604R
750mW 604R 200V Thick Film Resistor 100ppm/â„ƒ 1% 1812 Chip Resistor - Surface Mount RoHS; Manufacturer: FOJAN; Manufacturer Part Number: FRC1812F6040TS; Supplier: LCSC; Supplier Part Number: C49010126; Resistance: 604R; Tolerance: 1%; Voltage Rating: 200V; Power: 750mW
footprint RES SMD 1812
pins: 1, 2

## RES 1812 620k 5%
designator C?, comment 620k
750mW 620kR 200V Thick Film Resistor 100ppm/â„ƒ 5% 1812 Chip Resistor - Surface Mount RoHS; Manufacturer: FOJAN; Manufacturer Part Number: FRC1812J624 TS; Supplier: LCSC; Supplier Part Number: C18164313; Resistance: 620k; Tolerance: 5%; Voltage Rating: 200V; Power: 750mW
footprint RES SMD 1812
pins: 1, 2

## RES 1812 620mR 1%
designator C?, comment 620mR
750mW 620mR 200V Thick Film Resistor 1% 200ppm/â„ƒ 1812 Chip Resistor - Surface Mount RoHS; Manufacturer: FOJAN; Manufacturer Part Number: FRL1812FR620TS; Supplier: LCSC; Supplier Part Number: C2934343; Resistance: 620mR; Tolerance: 1%; Voltage Rating: 200V; Power: 750mW
footprint RES SMD 1812
pins: 1, 2

## RES 1812 620mR 5%
designator C?, comment 620mR
750mW 620mR 200V Thick Film Resistor 5% 200ppm/â„ƒ 1812 Chip Resistor - Surface Mount RoHS; Manufacturer: FOJAN; Manufacturer Part Number: FRL1812JR620TS; Supplier: LCSC; Supplier Part Number: C2934349; Resistance: 620mR; Tolerance: 5%; Voltage Rating: 200V; Power: 750mW
footprint RES SMD 1812
pins: 1, 2

## RES 1812 620R 5%
designator C?, comment 620R
620R 5% 750mW 1812 Thick Film Resistor; Manufacturer: FOJAN; Manufacturer Part Number: FRC1812J621 TS; Voltage Rating: 200V; Supplier: LCSC; Supplier Part Number: C2933971; Resistance: 620R; Tolerance: 5%; Power: 750mW
footprint RES SMD 1812
pins: 1, 2

## RES 1812 680k 5%
designator C?, comment 680k
750mW 680kR 200V Thick Film Resistor 5% 100ppm/â„ƒ 1812 Chip Resistor - Surface Mount RoHS; Manufacturer: FOJAN; Manufacturer Part Number: FRC1812J684 TS; Supplier: LCSC; Supplier Part Number: C7467390; Resistance: 680k; Tolerance: 5%; Voltage Rating: 200V; Power: 750mW
footprint RES SMD 1812
pins: 1, 2

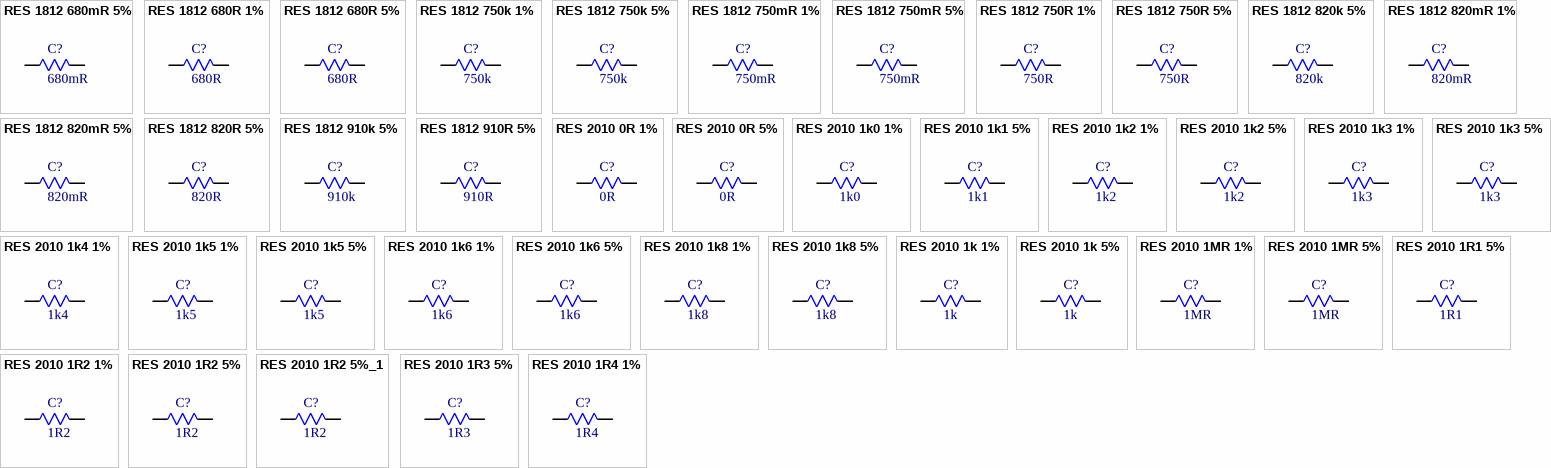
[diagram p99: symbols RES 1812 680mR 5% to RES 2010 1R4 1%]

## RES 1812 680mR 5%
designator C?, comment 680mR
750mW 680mR Thick Film Resistor 200ppm/â„ƒ 5% 1812 Chip Resistor - Surface Mount RoHS; Manufacturer: FOJAN; Manufacturer Part Number: FRL1812JR680TS; Supplier: LCSC; Supplier Part Number: C7467373; Resistance: 680mR; Tolerance: 5%; Power: 750mW
footprint RES SMD 1812
pins: 1, 2

## RES 1812 680R 1%
designator C?, comment 680R
680R 1% 750mW 1812 Thick Film Resistor; Manufacturer: FOJAN; Manufacturer Part Number: FRC1812F6800TS; Voltage Rating: 200V; Supplier: LCSC; Supplier Part Number: C2974077; Resistance: 680R; Tolerance: 1%; Power: 750mW
footprint RES SMD 1812
pins: 1, 2

## RES 1812 680R 5%
designator C?, comment 680R
680R 5% 750mW 1812 Thick Film Resistor; Manufacturer: FOJAN; Manufacturer Part Number: FRC1812J681 TS; Voltage Rating: 200V; Supplier: LCSC; Supplier Part Number: C2933974; Resistance: 680R; Tolerance: 5%; Power: 750mW
footprint RES SMD 1812
pins: 1, 2

## RES 1812 750k 1%
designator C?, comment 750k
750kR 750mW 200V Thick Film Resistor 100ppm/â„ƒ 1% 1812 Chip Resistor - Surface Mount RoHS; Manufacturer: FOJAN; Manufacturer Part Number: FRC1812F7503TS; Supplier: LCSC; Supplier Part Number: C18164309; Resistance: 750k; Tolerance: 1%; Voltage Rating: 200V; Power: 750mW
footprint RES SMD 1812
pins: 1, 2

## RES 1812 750k 5%
designator C?, comment 750k
750kR 5% 750mW 1812 Thick Film Resistor; Manufacturer: FOJAN; Manufacturer Part Number: FRC1812J754 TS; Voltage Rating: 200V; Supplier: LCSC; Supplier Part Number: C5713357; Resistance: 750k; Tolerance: 5%; Power: 750mW
footprint RES SMD 1812
pins: 1, 2

## RES 1812 750mR 1%
designator C?, comment 750mR
750mW 750mR Thick Film Resistor 200ppm/â„ƒ 1% 1812 Chip Resistor - Surface Mount RoHS; Manufacturer: FOJAN; Manufacturer Part Number: FRL1812FR750TS; Supplier: LCSC; Supplier Part Number: C3013362; Resistance: 750mR; Tolerance: 1%; Power: 750mW
footprint RES SMD 1812
pins: 1, 2

## RES 1812 750mR 5%
designator C?, comment 750mR
750mW 750mR Thick Film Resistor 200ppm/â„ƒ 5% 1812 Chip Resistor - Surface Mount RoHS; Manufacturer: FOJAN; Manufacturer Part Number: FRL1812JR750TS; Supplier: LCSC; Supplier Part Number: C3000787; Resistance: 750mR; Tolerance: 5%; Power: 750mW
footprint RES SMD 1812
pins: 1, 2

## RES 1812 750R 1%
designator C?, comment 750R
750R 1% 750mW 1812 Thick Film Resistor; Manufacturer: FOJAN; Manufacturer Part Number: FRC1812F7500TS; Voltage Rating: 200V; Supplier: LCSC; Supplier Part Number: C2933908; Resistance: 750R; Tolerance: 1%; Power: 750mW
footprint RES SMD 1812
pins: 1, 2

## RES 1812 750R 5%
designator C?, comment 750R
750R 5% 750mW 1812 Thick Film Resistor; Manufacturer: FOJAN; Manufacturer Part Number: FRC1812J751 TS; Voltage Rating: 200V; Supplier: LCSC; Supplier Part Number: C2960895; Resistance: 750R; Tolerance: 5%; Power: 750mW
footprint RES SMD 1812
pins: 1, 2

## RES 1812 820k 5%
designator C?, comment 820k
820kR 5% 750mW 1812 Thick Film Resistor; Manufacturer: FOJAN; Manufacturer Part Number: FRC1812J824 TS; Voltage Rating: 200V; Supplier: LCSC; Supplier Part Number: C2933977; Resistance: 820k; Tolerance: 5%; Power: 750mW
footprint RES SMD 1812
pins: 1, 2

## RES 1812 820mR 1%
designator C?, comment 820mR
750mW 820mR Thick Film Resistor 200ppm/â„ƒ 1% 1812 Chip Resistor - Surface Mount RoHS; Manufacturer: FOJAN; Manufacturer Part Number: FRL1812FR820TS; Supplier: LCSC; Supplier Part Number: C5159749; Resistance: 820mR; Tolerance: 1%; Power: 750mW
footprint RES SMD 1812
pins: 1, 2

## RES 1812 820mR 5%
designator C?, comment 820mR
750mW 820mR 200V Thick Film Resistor 5% 200ppm/â„ƒ 1812 Chip Resistor - Surface Mount RoHS; Manufacturer: FOJAN; Manufacturer Part Number: FRL1812JR820TS; Supplier: LCSC; Supplier Part Number: C2934350; Resistance: 820mR; Tolerance: 5%; Voltage Rating: 200V; Power: 750mW
footprint RES SMD 1812
pins: 1, 2

## RES 1812 820R 5%
designator C?, comment 820R
820R 5% 750mW 1812 Thick Film Resistor; Manufacturer: FOJAN; Manufacturer Part Number: FRC1812J821 TS; Voltage Rating: 200V; Supplier: LCSC; Supplier Part Number: C2933975; Resistance: 820R; Tolerance: 5%; Power: 750mW
footprint RES SMD 1812
pins: 1, 2

## RES 1812 910k 5%
designator C?, comment 910k
910kR 5% 750mW 1812 Thick Film Resistor; Manufacturer: FOJAN; Manufacturer Part Number: FRC1812J914 TS; Voltage Rating: 200V; Supplier: LCSC; Supplier Part Number: C5713361; Resistance: 910k; Tolerance: 5%; Power: 750mW
footprint RES SMD 1812
pins: 1, 2

## RES 1812 910R 5%
designator C?, comment 910R
750mW 910R 200V Thick Film Resistor 100ppm/â„ƒ 5% 1812 Chip Resistor - Surface Mount RoHS; Manufacturer: FOJAN; Manufacturer Part Number: FRC1812J911 TS; Supplier: LCSC; Supplier Part Number: C5713359; Resistance: 910R; Tolerance: 5%; Voltage Rating: 200V; Power: 750mW
footprint RES SMD 1812
pins: 1, 2

## RES 2010 0R 1%
designator C?, comment 0R
750mW 0R 200V Thick Film Resistor 1% 2010 Chip Resistor - Surface Mount RoHS; Manufacturer: FOJAN; Manufacturer Part Number: FRC2010F0000TS; Supplier: LCSC; Supplier Part Number: C2960848; Resistance: 0R; Tolerance: 1%; Voltage Rating: 200V; Power: 750mW
footprint RES SMD 2010
pins: 1, 2

## RES 2010 0R 5%
designator C?, comment 0R
750mW 0R 200V Thick Film Resistor 5% 2010 Chip Resistor - Surface Mount RoHS; Manufacturer: FOJAN; Manufacturer Part Number: FRC2010P000 TS; Supplier: LCSC; Supplier Part Number: C2907556; Resistance: 0R; Tolerance: 5%; Voltage Rating: 200V; Power: 750mW
footprint RES SMD 2010
pins: 1, 2

## RES 2010 1k0 1%
designator C?, comment 1k0
1.07kR 750mW 200V Thick Film Resistor 1% 2010 Chip Resistor - Surface Mount RoHS; Manufacturer: FOJAN; Manufacturer Part Number: FRC2010F1071TS; Supplier: LCSC; Supplier Part Number: C51048343; Resistance: 1k0; Tolerance: 1%; Voltage Rating: 200V; Power: 750mW
footprint RES SMD 2010
pins: 1, 2

## RES 2010 1k1 5%
designator C?, comment 1k1
1.1kR 5% 750mW 2010 Thick Film Resistor; Manufacturer: FOJAN; Manufacturer Part Number: FRC2010J112 TS; Voltage Rating: 200V; Supplier: LCSC; Supplier Part Number: C2933995; Resistance: 1k1; Tolerance: 5%; Power: 750mW
footprint RES SMD 2010
pins: 1, 2

## RES 2010 1k2 1%
designator C?, comment 1k2
750mW 1.2kR 200V Thick Film Resistor 1% 2010 Chip Resistor - Surface Mount RoHS; Manufacturer: FOJAN; Manufacturer Part Number: FRC2010F1201TS; Supplier: LCSC; Supplier Part Number: C51048258; Resistance: 1k2; Tolerance: 1%; Voltage Rating: 200V; Power: 750mW
footprint RES SMD 2010
pins: 1, 2

## RES 2010 1k2 5%
designator C?, comment 1k2
1.2kR 5% 750mW 2010 Thick Film Resistor; Manufacturer: FOJAN; Manufacturer Part Number: FRC2010J122 TS; Voltage Rating: 200V; Supplier: LCSC; Supplier Part Number: C3013314; Resistance: 1k2; Tolerance: 5%; Power: 750mW
footprint RES SMD 2010
pins: 1, 2

## RES 2010 1k3 1%
designator C?, comment 1k3
1.3kR 1% 750mW 2010 Thick Film Resistor; Manufacturer: FOJAN; Manufacturer Part Number: FRC2010F1301TS; Voltage Rating: 200V; Supplier: LCSC; Supplier Part Number: C2933981; Resistance: 1k3; Tolerance: 1%; Power: 750mW
footprint RES SMD 2010
pins: 1, 2

## RES 2010 1k3 5%
designator C?, comment 1k3
1.3kR 5% 750mW 2010 Thick Film Resistor; Manufacturer: FOJAN; Manufacturer Part Number: FRC2010J132TS; Voltage Rating: 200V; Supplier: LCSC; Supplier Part Number: C5379853; Resistance: 1k3; Tolerance: 5%; Power: 750mW
footprint RES SMD 2010
pins: 1, 2

## RES 2010 1k4 1%
designator C?, comment 1k4
1.4kR 1% 750mW 2010 Thick Film Resistor; Manufacturer: FOJAN; Manufacturer Part Number: FRC2010F1401TS; Voltage Rating: 200V; Supplier: LCSC; Supplier Part Number: C5713363; Resistance: 1k4; Tolerance: 1%; Power: 750mW
footprint RES SMD 2010
pins: 1, 2

## RES 2010 1k5 1%
designator C?, comment 1k5
1.5kR 1% 750mW 2010 Thick Film Resistor; Manufacturer: FOJAN; Manufacturer Part Number: FRC2010F1501TS; Voltage Rating: 200V; Supplier: LCSC; Supplier Part Number: C2974091; Resistance: 1k5; Tolerance: 1%; Power: 750mW
footprint RES SMD 2010
pins: 1, 2

## RES 2010 1k5 5%
designator C?, comment 1k5
1.5kR 5% 750mW 2010 Thick Film Resistor; Manufacturer: FOJAN; Manufacturer Part Number: FRC2010J152 TS; Voltage Rating: 200V; Supplier: LCSC; Supplier Part Number: C2960919; Resistance: 1k5; Tolerance: 5%; Power: 750mW
footprint RES SMD 2010
pins: 1, 2

## RES 2010 1k6 1%
designator C?, comment 1k6
1.6kR 1% 750mW 2010 Thick Film Resistor; Manufacturer: FOJAN; Manufacturer Part Number: FRC2010F1601TS; Voltage Rating: 200V; Supplier: LCSC; Supplier Part Number: C2974092; Resistance: 1k6; Tolerance: 1%; Power: 750mW
footprint RES SMD 2010
pins: 1, 2

## RES 2010 1k6 5%
designator C?, comment 1k6
1.6kR 5% 750mW 2010 Thick Film Resistor; Manufacturer: FOJAN; Manufacturer Part Number: FRC2010J162 TS; Voltage Rating: 200V; Supplier: LCSC; Supplier Part Number: C2934002; Resistance: 1k6; Tolerance: 5%; Power: 750mW
footprint RES SMD 2010
pins: 1, 2

## RES 2010 1k8 1%
designator C?, comment 1k8
750mW 1.87kR 200V Thick Film Resistor 100ppm/â„ƒ 1% 2010 Chip Resistor - Surface Mount RoHS; Manufacturer: FOJAN; Manufacturer Part Number: FRC2010F1871TS; Supplier: LCSC; Supplier Part Number: C49196911; Resistance: 1k8; Tolerance: 1%; Voltage Rating: 200V; Power: 750mW
footprint RES SMD 2010
pins: 1, 2

## RES 2010 1k8 5%
designator C?, comment 1k8
1.8kR 5% 750mW 2010 Thick Film Resistor; Manufacturer: FOJAN; Manufacturer Part Number: FRC2010J182 TS; Voltage Rating: 200V; Supplier: LCSC; Supplier Part Number: C2934003; Resistance: 1k8; Tolerance: 5%; Power: 750mW
footprint RES SMD 2010
pins: 1, 2

## RES 2010 1k 1%
designator C?, comment 1k
1kR 1% 750mW 2010 Thick Film Resistor; Manufacturer: FOJAN; Manufacturer Part Number: FRC2010F1001TS; Voltage Rating: 200V; Supplier: LCSC; Supplier Part Number: C2974087; Resistance: 1k; Tolerance: 1%; Power: 750mW
footprint RES SMD 2010
pins: 1, 2

## RES 2010 1k 5%
designator C?, comment 1k
1kR 5% 750mW 2010 Thick Film Resistor; Manufacturer: FOJAN; Manufacturer Part Number: FRC2010J102 TS; Voltage Rating: 200V; Supplier: LCSC; Supplier Part Number: C2907561; Resistance: 1k; Tolerance: 5%; Power: 750mW
footprint RES SMD 2010
pins: 1, 2

## RES 2010 1MR 1%
designator C?, comment 1MR
1MR 1% 750mW 2010 Thick Film Resistor; Manufacturer: FOJAN; Manufacturer Part Number: FRC2010F1004TS; Voltage Rating: 200V; Supplier: LCSC; Supplier Part Number: C2933978; Resistance: 1MR; Tolerance: 1%; Power: 750mW
footprint RES SMD 2010
pins: 1, 2

## RES 2010 1MR 5%
designator C?, comment 1MR
1MR 5% 750mW 2010 Thick Film Resistor; Manufacturer: FOJAN; Manufacturer Part Number: FRC2010J105TS; Voltage Rating: 200V; Supplier: LCSC; Supplier Part Number: C3000679; Resistance: 1MR; Tolerance: 5%; Power: 750mW
footprint RES SMD 2010
pins: 1, 2

## RES 2010 1R1 5%
designator C?, comment 1R1
1.1R 5% 750mW 2010 Thick Film Resistor; Manufacturer: FOJAN; Manufacturer Part Number: FRC2010J1R1 TS; Voltage Rating: 200V; Supplier: LCSC; Supplier Part Number: C5126185; Resistance: 1R1; Tolerance: 5%; Power: 750mW
footprint RES SMD 2010
pins: 1, 2

## RES 2010 1R2 1%
designator C?, comment 1R2
1.2R 1% 750mW 2010 Thick Film Resistor; Manufacturer: FOJAN; Manufacturer Part Number: FRC2010F1R20TS; Voltage Rating: 200V; Supplier: LCSC; Supplier Part Number: C2974093; Resistance: 1R2; Tolerance: 1%; Power: 750mW
footprint RES SMD 2010
pins: 1, 2

## RES 2010 1R2 5%
designator C?, comment 1R2
1.2MR 750mW 200V Thick Film Resistor 5% 100ppm/â„ƒ 2010 Chip Resistor - Surface Mount RoHS; Manufacturer: FOJAN; Manufacturer Part Number: FRC2010J125 TS; Supplier: LCSC; Supplier Part Number: C7467394; Resistance: 1R2; Tolerance: 5%; Voltage Rating: 200V; Power: 750mW
footprint RES SMD 2010
pins: 1, 2

## RES 2010 1R2 5%_1
designator C?, comment 1R2
1.2R 5% 750mW 2010 Thick Film Resistor; Manufacturer: FOJAN; Manufacturer Part Number: FRC2010J1R2 TS; Voltage Rating: 200V; Supplier: LCSC; Supplier Part Number: C2960840; Resistance: 1R2; Tolerance: 5%; Power: 750mW
footprint RES SMD 2010
pins: 1, 2